# Altium footprint library project.PcbLib: 22 footprints (part 1 of 2)
Each footprint in its own frame and in the unit in brackets; x right, y up, seen from the top. Pads: shape width x height; smd on the part's side, far side on the other; paste and mask are expansions set on the pad; w line width, h text height; cw(c..) or ccw(c..) is an arc to the next point about the centre after c.
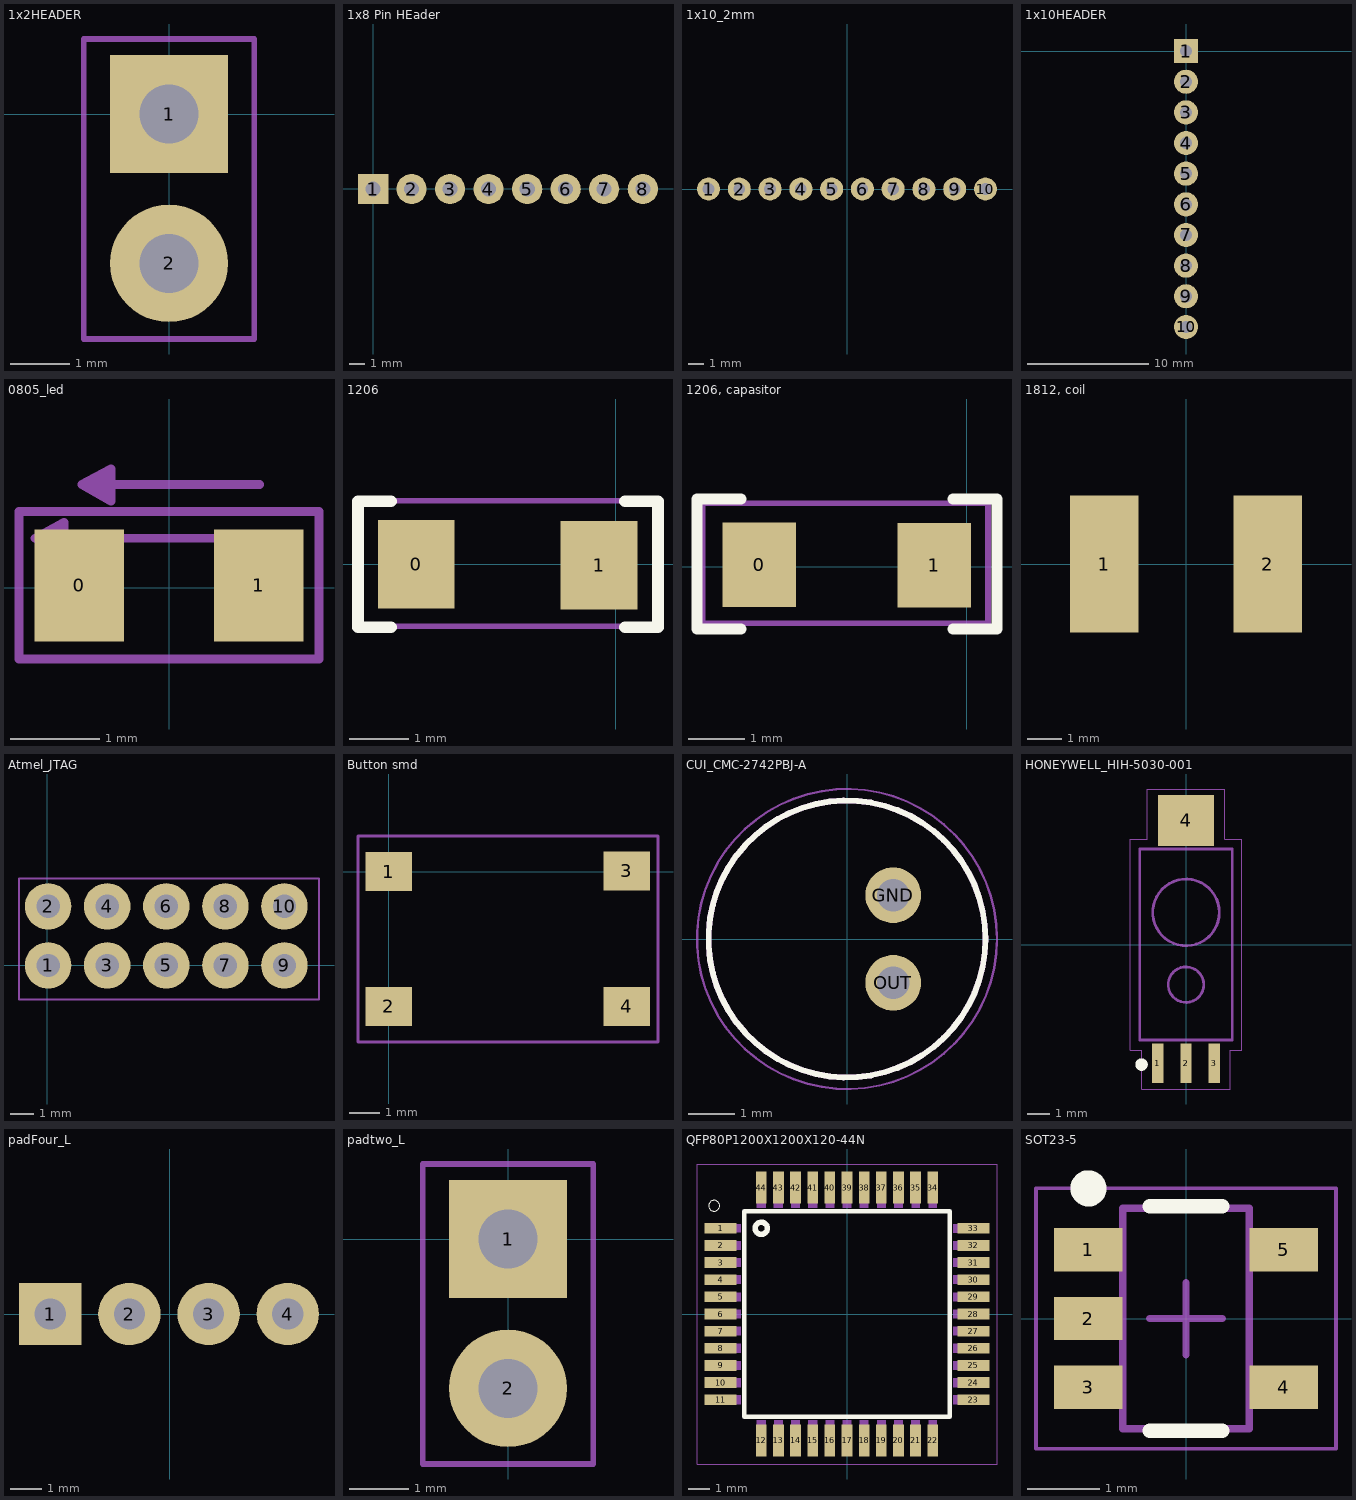
[diagram p0: the footprints below, top view; thin cyan lines are the x and y axes]

## 1x2HEADER [mm]
pads (2):
  rect 2x2 hole 1: 1(0,0)
  round 2 hole 1: 2(0,-2.54)
Mechanical 13:
  lines w0.1: -1.45,-3.825 -1.45,1.275 1.45,1.275 1.45,-3.825 -1.45,-3.825
  text ".Designator" at 0.35,-3.275 h1
3D body "User Library-Header Vertical 2_54mm Pitch2-1.STEP": height 5.94, standoff -2.94, extent -1.27,-3.81 1.27,-1.27
3D body "User Library-Header Vertical 2_54mm Pitch2-1.STEP": height 5.94, standoff -2.94, extent -1.27,-1.27 1.27,1.27

## 1x8 Pin HEader [mm]
pads (8):
  rect 2x2 hole 1: 1(0,-0.025)
  round 2 hole 1: 2(2.54,-0.025) 3(5.08,-0.025) 4(7.62,-0.025) 5(10.18,-0.025) 6(12.72,-0.025) 7(15.26,-0.025) 8(17.82,-0.025)
3D body "User Library-Header_Male_8Pin.STEP": height 8.54, standoff -3, extent -1.27,-1.245 19.05,1.245

## 1x10_2mm [mm]
pads (10):
  round 1.5 hole 0.762: 1(-9,0) 2(-7,0) 3(-5,0) 4(-3,0) 5(-1,0) 6(1,0) 7(3,0) 8(5,0) 9(7,0) 10(9,0)

## 1x10HEADER [mm]
pads (10):
  rect 2x2 hole 1: 1(0,0)
  round 2 hole 1: 2(0,-2.54) 3(0,-5.08) 4(0,-7.62) 5(0,-10.16) 6(0,-12.7) 7(0,-15.24) 8(0,-17.78) 9(0,-20.32) 10(0,-22.86)
3D body "User Library-Header Vertical 2_54mm Pitch2-1.STEP": height 5.94, standoff -2.94, extent -1.27,-1.27 1.27,1.27
3D body "User Library-Header Vertical 2_54mm Pitch2-1.STEP": height 5.94, standoff -2.94, extent -1.27,-3.81 1.27,-1.27
3D body "User Library-Header Vertical 2_54mm Pitch2-1.STEP": height 5.94, standoff -2.94, extent -1.27,-6.35 1.27,-3.81
3D body "User Library-Header Vertical 2_54mm Pitch2-1.STEP": height 5.94, standoff -2.94, extent -1.27,-8.89 1.27,-6.35
3D body "User Library-Header Vertical 2_54mm Pitch2-1.STEP": height 5.94, standoff -2.94, extent -1.27,-11.43 1.27,-8.89
3D body "User Library-Header Vertical 2_54mm Pitch2-1.STEP": height 5.94, standoff -2.94, extent -1.27,-13.97 1.27,-11.43
3D body "User Library-Header Vertical 2_54mm Pitch2-1.STEP": height 5.94, standoff -2.94, extent -1.27,-16.51 1.27,-13.97
3D body "User Library-Header Vertical 2_54mm Pitch2-1.STEP": height 5.94, standoff -2.94, extent -1.27,-19.05 1.27,-16.51
3D body "User Library-Header Vertical 2_54mm Pitch2-1.STEP": height 5.94, standoff -2.94, extent -1.27,-24.13 1.27,-21.59
3D body "User Library-Header Vertical 2_54mm Pitch2-1.STEP": height 5.94, standoff -2.94, extent -1.27,-21.59 1.27,-19.05

## 0805_led [mm]
pads (2):
  rect 1x1.25 smd: 0(-1,0.025) 1(1,0.025)
Mechanical 13:
  lines w0.1: 0.485,0.55 -1.498,0.55 ; 1.01,1.15 -0.972,1.15 ; -1.498,0.55 -1.175,0.367 ; -1.498,0.55 -1.175,0.725 ; -1.175,0.367 -1.282,0.55 -1.175,0.725 ; -1.175,0.367 -1.175,0.725 ; -0.972,1.15 -0.65,1.325 ; -0.972,1.15 -0.65,0.968 ; -0.65,0.968 -0.65,1.325 ; -0.65,0.968 -0.757,1.15 -0.65,1.325 ; -1.675,-0.8 1.675,-0.8 1.675,0.85 -1.675,0.85 -1.675,-0.8
  text ".Designator" at -1.425,-0.65 h0.4
3D body "User Library-led_0805.STEP": height 1.1, standoff 0, extent -1.035,-0.6 0.985,0.65

## 1206 [mm]
pads (2):
  rect 1.3x1.5 smd: 0(-3.384,-0.003) 1(-0.286,-0.014)
Top Overlay:
  lines w0.2: -3.81,-1.067 -4.369,-1.067 -4.369,1.067 -3.81,1.067 ; 0.152,-1.067 0.711,-1.067 0.711,1.067 0.152,1.067
Mechanical 13:
  lines w0.1: -4.35,-1.05 0.7,-1.05 0.7,1.075 -4.35,1.075 -4.35,-1.05
  text ".Designator" at -3.6,-0.425 h1
3D body "User Library-R_1206.STEP": height -0.4, standoff -1, extent -3.465,-0.793 -0.265,0.807

## 1206, capasitor [mm]
pads (2):
  rect 1.3x1.5 smd: 0(-3.673,0.038) 1(-0.575,0.026)
Top Overlay:
  lines w0.2: -4,-1.1 -4.775,-1.1 -4.775,-1 -4.775,-0.767 -4.775,0.843 -4.775,1.2 -4,1.2 ; -0.242,-1.1 0.533,-1.1 0.533,1.2 -0.242,1.2
Mechanical 13:
  lines w0.1: -4.675,-1 0.375,-1 0.375,1.125 -4.675,1.125 -4.675,-1
  text ".Designator" at -3.925,-0.375 h1
3D body "User Library-cap_1206_0_95.STEP": height -0.55, standoff -1.5, extent -3.776,-0.786 -0.576,0.814

## 1812, coil [mm]
pads (2):
  rect 2x4 smd: 1(-2.385,0) 2(2.385,0)
3D body "cap_1812.step": height 2.6, standoff 0, extent -2.3,-1.6 2.3,1.6

## Atmel_JTAG [mm]
pads (10):
  round 2 hole 1: 1(0.028,-0.01) 2(0.028,2.53) 3(2.568,-0.01) 4(2.568,2.53) 5(5.108,-0.01) 6(5.108,2.53) 7(7.648,-0.01) 8(7.648,2.53) 9(10.188,-0.01) 10(10.188,2.53)
Mechanical 13:
  lines w0.1: -1.225,-1.475 -1.225,3.725 11.675,3.725 11.675,-1.475 -1.225,-1.475
  text ".Designator" at -0.35,0.925 h1
3D body "12539.stp": height 8.6, standoff -3.2, extent -1.147,-1.36 11.553,3.64

## Button smd [mm]
pads (4):
  rect 1.55x1.3 smd: 1(0,0) 2(0,-4.5) 3(7.95,0.023) 4(7.95,-4.5)
Mechanical 13:
  lines w0.1: -1.025,-5.7 -1.025,1.2 9,1.2 9,-5.7 -1.025,-5.7
  text ".Designator" at 0.325,-2.475 h1
3D body "User Library-PTS645SL43SMTR92-LFS.STEP": height 4.3, standoff 0, extent -0.55,-5.25 8.45,0.75

## CUI_CMC-2742PBJ-A [mm]
pads (2):
  round 1.208 hole 0.7: GND(1,0.95) OUT(1,-0.95)
Top Overlay:
  circle w0.127: c0,0 r3
Mechanical 13:
  circle w0.127: c0,0 r3
Mechanical 15:
  circle w0.05: c0,0 r3.25

## HONEYWELL_HIH-5030-001 [mm]
pads (4):
  rect 0.51x1.78 smd: 1(-1.27,-5.335) 2(0,-5.335) 3(1.27,-5.335)
  rect 2.54x2.29 smd: 4(0,5.59)
Top Overlay:
  circle w0.28: c-2,-5.4 r0.14
Mechanical 13:
  circle w0.127: c0,1.445 r1.5
  circle w0.127: c0,-1.805 r0.8
  lines w0.127: -2.085,-4.295 -2.085,4.295 2.085,4.295 2.085,-4.295 -2.085,-4.295
Mechanical 15:
  lines w0.05: -2.5,-4.75 -2.5,4.75 -1.75,4.75 -1.75,7 1.75,7 1.75,4.75 2.5,4.75 2.5,-4.75 2,-4.75 2,-6.5 -2,-6.5 -2,-4.75 -2.5,-4.75

## padFour_L [mm]
pads (4):
  rect 2x2 hole 1: 1(-3.83,0)
  round 2 hole 1: 2(-1.29,0) 3(1.25,0) 4(3.79,0)
3D body "User Library-Pin Header Strip.STEP": height 8.51, standoff -3.68, extent -5.1,-1.42 -0.02,1.5
3D body "User Library-Pin Header Strip.STEP": height 8.51, standoff -3.68, extent -0.02,-1.42 5.06,1.5

## padtwo_L [mm]
pads (2):
  rect 2x2 hole 1: 1(0,0)
  round 2 hole 1: 2(0,-2.54)
Mechanical 13:
  lines w0.1: -1.45,-3.825 -1.45,1.275 1.45,1.275 1.45,-3.825 -1.45,-3.825
  text ".Designator" at 0.35,-3.275 h1
3D body "User Library-Pin Header Strip.STEP": height 8.51, standoff -3.68, extent -1.46,-3.81 1.46,1.27

## QFP80P1200X1200X120-44N [mm]
pads (44):
  rect 1.5x0.5 smd: 1(-5.9,4) 2(-5.9,3.2) 3(-5.9,2.4) 4(-5.9,1.6) 5(-5.9,0.8) 6(-5.9,0) 7(-5.9,-0.8) 8(-5.9,-1.6) 9(-5.9,-2.4) 10(-5.9,-3.2) 11(-5.9,-4) 23(5.9,-4) 24(5.9,-3.2) 25(5.9,-2.4) 26(5.9,-1.6) 27(5.9,-0.8) 28(5.9,0) 29(5.9,0.8) 30(5.9,1.6) 31(5.9,2.4) 32(5.9,3.2) 33(5.9,4)
  rect 0.5x1.5 smd: 12(-4,-5.9) 13(-3.2,-5.9) 14(-2.4,-5.9) 15(-1.6,-5.9) 16(-0.8,-5.9) 17(0,-5.9) 18(0.8,-5.9) 19(1.6,-5.9) 20(2.4,-5.9) 21(3.2,-5.9) 22(4,-5.9) 34(4,5.9) 35(3.2,5.9) 36(2.4,5.9) 37(1.6,5.9) 38(0.8,5.9) 39(0,5.9) 40(-0.8,5.9) 41(-1.6,5.9) 42(-2.4,5.9) 43(-3.2,5.9) 44(-4,5.9)
Top Overlay:
  circle w0.254: c-4,4 r0.283
  circle w0: c-6.2,5.05 r0.254
  lines w0.203: -4.8,-4.8 4.8,-4.8 4.8,4.8 -4.8,4.8 -4.8,-4.8
Mechanical 13:
  drawing of 44 lines, arcs and shapes, not listed
Mechanical 15:
  lines w0.05: -7,-7 7,-7 7,7 -7,7 -7,-7

## SOT23-5 [mm]
pads (5):
  rect 0.95x0.6 smd: 1(-1.35,0.95) 2(-1.35,0) 3(-1.35,-0.95) 4(1.35,-0.95) 5(1.35,0.95)
Top Overlay:
  circle w0.25: c-1.35,1.8 r0.125
  lines w0.2: -0.5,-1.55 0.5,-1.55 ; -0.5,1.55 0.5,1.55
Mechanical 13:
  lines w0.1: -0.875,-1.525 0.875,-1.525 0.875,1.525 -0.875,1.525 -0.875,-1.525
Mechanical 15:
  lines w0.05: -2.075,-1.8 2.075,-1.8 2.075,1.8 -2.075,1.8 -2.075,-1.8
  lines w0.1: -0.5,0 0.5,0 ; 0,-0.5 0,0.5
3D body "SW3DPS-SOT-23-5-DEFAULT.STEP": height 1.1, standoff 0, extent -1.25,-1.5 1.25,1.5